# EAGLE library part JS202011JCQN (library mbed-HDK-Switch)
SLIDE TOGGLE SWITCH VERTICAL (DPDT)
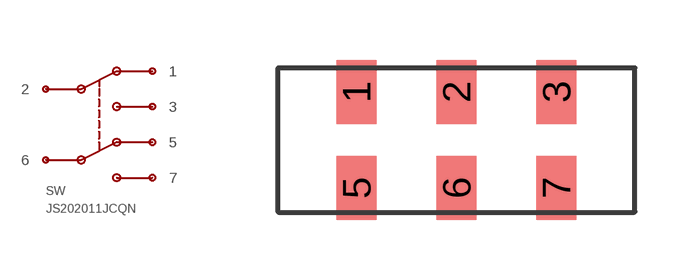
[diagram p0: symbol with the pads of JS202011JCQN; footprint JS202011JCQN]

Designator prefix SW

## JS202011JCQN (MF: C&K Components; MFN: JS202011JCQN; OC-DIGIKEY: CKN10723CT-ND; OC-MOUSER: 611-JS202011JCQN)  [JS202011JCQN]
1  1
2  2
3  3
5  5
6  6
7  7

## Footprint JS202011JCQN (pad centres in mm)
smd 1 x 1.6: 1 0,2.4; 2 2.5,2.4; 3 5,2.4; 5 0,0; 6 2.5,0; 7 5,0